# EAGLE library part SI4463CDY-T1-GE3 (library Vishay)
MOSFET
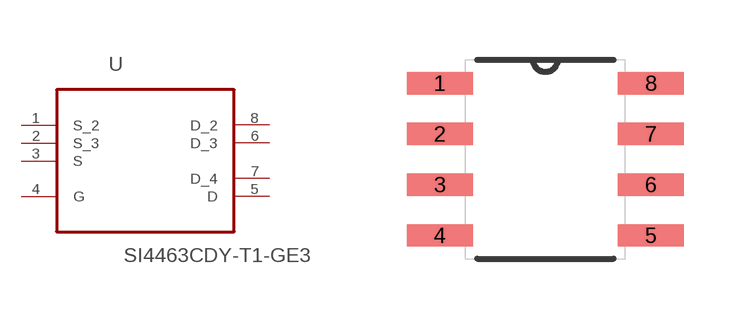
[diagram p87: symbol with the pads of SOIC127P600X175-8N; footprint SOIC127P600X175-8N]

Designator prefix U

## SI4463CDY-T1-GE3 (MPN: SI4463CDY-T1-GE3; OC_FARNELL: 2056686; OC_NEWARK: 64T4067; PACKAGE: SOIC-8; SUPPLIER: VISHAY SILICONIX)  [SOIC127P600X175-8N]
1  S_2  pas
2  S_3  pas
3  S  pas
4  G  pas
5  D  pas
6  D_3  pas
7  D_4  pas
8  D_2  pas

## Footprint SOIC127P600X175-8N (pad centres in mm)
smd 1.651 x 0.559: 1 -2.642,1.905; 2 -2.642,0.635; 3 -2.642,-0.635; 4 -2.642,-1.905; 5 2.642,-1.905; 6 2.642,-0.635; 7 2.642,0.635; 8 2.642,1.905